# Altium footprint library TE_9-966140-3.PcbLib: 1 footprints
Each footprint in its own frame and in the unit in brackets; x right, y up, seen from the top. Pads: shape width x height; smd on the part's side, far side on the other; paste and mask are expansions set on the pad; w line width, h text height; cw(c..) or ccw(c..) is an arc to the next point about the centre after c.
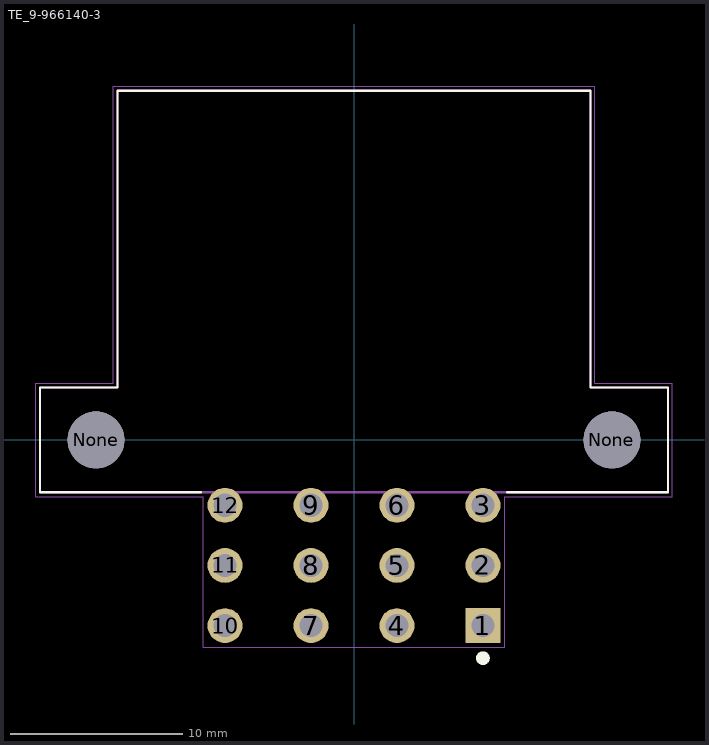
[diagram p0: the footprint, top view; thin cyan lines are the x and y axes]

## TE_9-966140-3 [mm]
pads (14):
  rect 2.025x2.025 hole 1.35: 1(7.5,-10.8)
  round 2.025 hole 1.35: 2(7.5,-7.3) 3(7.5,-3.8) 4(2.5,-10.8) 5(2.5,-7.3) 6(2.5,-3.8) 7(-2.5,-10.8) 8(-2.5,-7.3) 9(-2.5,-3.8) 10(-7.5,-10.8) 11(-7.5,-7.3) 12(-7.5,-3.8)
  round 3.3 hole 3.3 unplated: None(-15,0) None(15,0)
Top Overlay:
  circle w0.4: c7.493,-12.69 r0.2
  lines w0.127: -8.9,-3.05 -18.25,-3.05 -18.25,3.048 -13.75,3.048 -13.75,20.3 13.75,20.3 13.75,3.051 18.25,3.051 18.25,-3.049 8.9,-3.049
Mechanical 13:
  lines w0.127: -18.25,-3.05 18.25,-3.05 ; -18.25,-3.05 -18.25,3.05 ; -18.25,-3.05 18.25,-3.05 ; -18.25,-3.05 -18.25,3.05 ; -18.25,3.05 -13.75,3.05 ; -18.25,3.05 -13.75,3.05 ; -13.75,3.05 -13.75,20.3 ; -13.75,3.05 -13.75,20.3 ; -13.75,20.3 13.75,20.3 ; -13.75,20.3 13.75,20.3 ; 13.75,3.05 18.25,3.05 ; 13.75,3.05 13.75,20.3 ; 13.75,3.05 18.25,3.05 ; 13.75,3.05 13.75,20.3 ; 18.25,-3.05 18.25,3.05 ; 18.25,-3.05 18.25,3.05
Mechanical 15:
  lines w0.05: -18.5,-3.3 -18.5,3.3 -14,3.3 -14,20.55 14,20.55 14,3.3 18.5,3.3 18.5,-3.3 8.77,-3.3 8.77,-12.07 -8.77,-12.07 -8.77,-3.3 -18.5,-3.3
3D body "c-9-966140-3-f-3d.stp": height 25.7, standoff -3, extent -17.9,-11.227 17.95,19.673